# Altium schematic symbol library BAS3010B03WE6327HTSA1.SchLib: 1 symbol
Pins are listed as number, name and electrical type; pins without a type are passive.

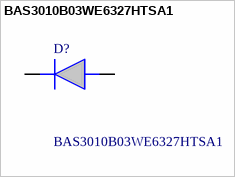
[diagram p0: symbol BAS3010B03WE6327HTSA1]

## BAS3010B03WE6327HTSA1
designator D?
Infineon 30V 1A, Diode, 2-Pin SOD-323 BAS3010B03WE6327HTSA1; Geometry.Height: 1.1mm; Manufacturer_Name: Infineon; Manufacturer_Part_Number: BAS3010B03WE6327HTSA1; Mouser Part Number: 726-BAS3010B-03WE6; Mouser Price/Stock: https://www.mouser.co.uk/ProductDetail/Infineon-Technologies/BAS3010B03WE6327HTSA1?qs=K00xGehIljsBZni0ij29%2Fg%3D%3D; Arrow Part Number: BAS3010B03WE6327HTSA1; Arrow Price/Stock: https://www.arrow.com/en/products/bas3010b03we6327htsa1/infineon-technologies-ag?utm_currency=USD&region=nac; Datasheet Link: https://www.infineon.com/dgdl/Infineon-BAS3010BSERIES-DS-v01_01-en.pdf?fileId=db3a304313e278750113e29a03a70005
footprint SOD2513X110N
pins: 1 K, 2 A